# EAGLE library part SDCMF-109XXW010 (library card_adapters)
KingFont SD-CARD SDCMF-109XXW010 SPI -MODE
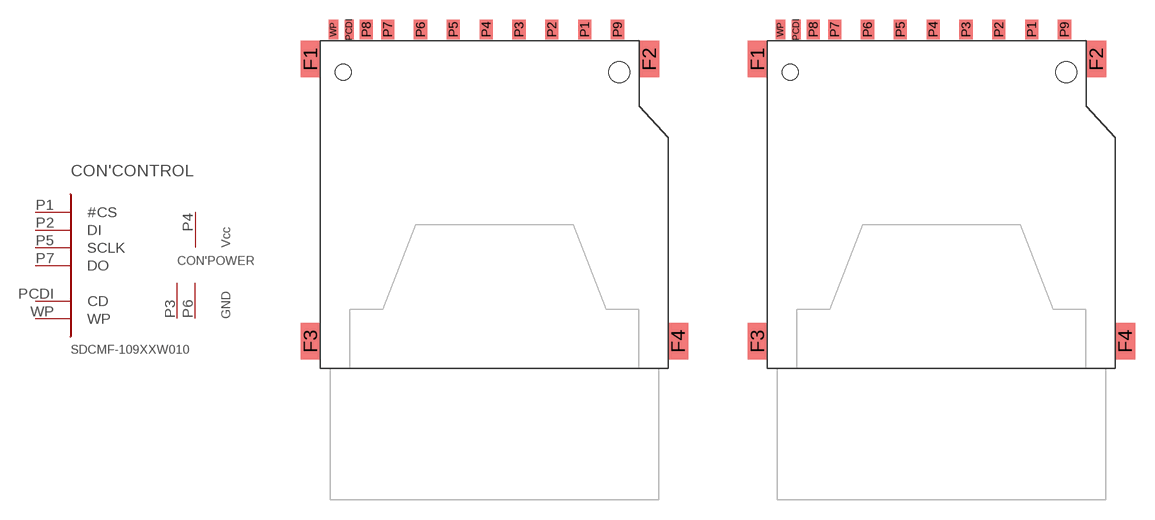
[diagram p0: symbol with the pads of SDCMF-109XXW010; footprints SDCMF-109XXW010, SDCMF-10915W0T1]

Designator prefix CON; gates 'CONTROL=SDCMF-109XXW010_SPI 'POWER=SDCMF-109XXW010_VCC_GND

## SDCMF-109XXW010SMD  [SDCMF-109XXW010]
P1  'CONTROL:#CS  in
P2  'CONTROL:DI  in
P3  'POWER:GND  pwr
P4  'POWER:VCC  pwr
P5  'CONTROL:SCLK  in
P6  'POWER:GND  pwr
P7  'CONTROL:DO  out
PCDI  'CONTROL:CD  oc
WP  'CONTROL:WP  oc

## SDCMF-109XXW010SDCMF-10915W0T1_SO  [SDCMF-10915W0T1]
Pads as for SDCMF-109XXW010

## Footprint SDCMF-109XXW010 (pad centres in mm)
KingFont SD-CARD Connector Type C SDCMF-109XXW010
smd 1.5 x 2.8: F1 -14,-1.4; F2 11.8,-1.4; F3 -14,-22.9; F4 14,-22.9
smd 1 x 1.5: P1 6.875,0.85; P2 4.375,0.85; P3 1.875,0.85; P4 -0.625,0.85; P5 -3.125,0.85; P6 -5.625,0.85; P7 -8.125,0.85; P8 -9.75,0.85; P9 9.375,0.85
smd 0.7 x 1.5: PCDI -11.05,0.85; WP -12.25,0.85
hole 1.6 at 9.5,-2.4
hole 1.2 at -11.5,-2.4

## Footprint SDCMF-10915W0T1 (pad centres in mm)
smd 1.5 x 2.8: F1 -14,-1.4; F2 11.8,-1.4; F3 -14,-22.9; F4 14,-22.9
smd 1 x 1.5: P1 6.875,0.85; P2 4.375,0.85; P3 1.875,0.85; P4 -0.625,0.85; P5 -3.125,0.85; P6 -5.625,0.85; P7 -8.125,0.85; P8 -9.75,0.85; P9 9.375,0.85
smd 0.7 x 1.5: PCDI -11.05,0.85; WP -12.25,0.85
hole 1.6 at 9.5,-2.4
hole 1.2 at -11.5,-2.4